# Altium footprint library R_SQP10.PcbLib: 1 footprints
Each footprint in its own frame and in the unit in brackets; x right, y up, seen from the top. Pads: shape width x height; smd on the part's side, far side on the other; paste and mask are expansions set on the pad; w line width, h text height; cw(c..) or ccw(c..) is an arc to the next point about the centre after c.
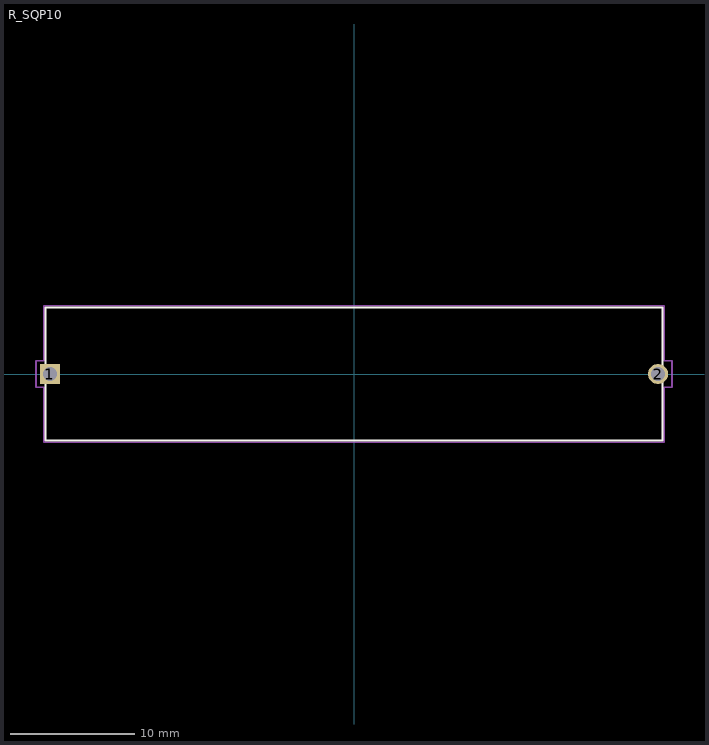
[diagram p0: the footprint, top view; thin cyan lines are the x and y axes]

## R_SQP10 [mil] "10Watt power resistor"
pads (2):
  rect 64x64 / inner round 60 / far side rect 64x64 hole 44: 1(-965,0)
  round 64 / inner round 60 / far side round 64 hole 44: 2(965,0)
Top Overlay:
  lines w6: -979.5,-211.5 -979.5,211.5 979.5,211.5 979.5,-211.5 -979.5,-211.5
Mechanical 15:
  lines w6: -1010,-42 -984.5,-42 -984.5,-216.5 984.5,-216.5 984.5,-42 1010,-42 1010,42 984.5,42 984.5,216.5 -984.5,216.5 -984.5,42 -1010,42 -1010,-42
3D body "User Library-SQP10AJB-10R.STEP": height 515.35, standoff -59.06, extent -980.31,-177.16 980.32,177.17